# Altium footprint library Diode.PcbLib: 27 footprints (part 2 of 2)
Each footprint in its own frame and in the unit in brackets; x right, y up, seen from the top. Pads: shape width x height; smd on the part's side, far side on the other; paste and mask are expansions set on the pad; w line width, h text height; cw(c..) or ccw(c..) is an arc to the next point about the centre after c.
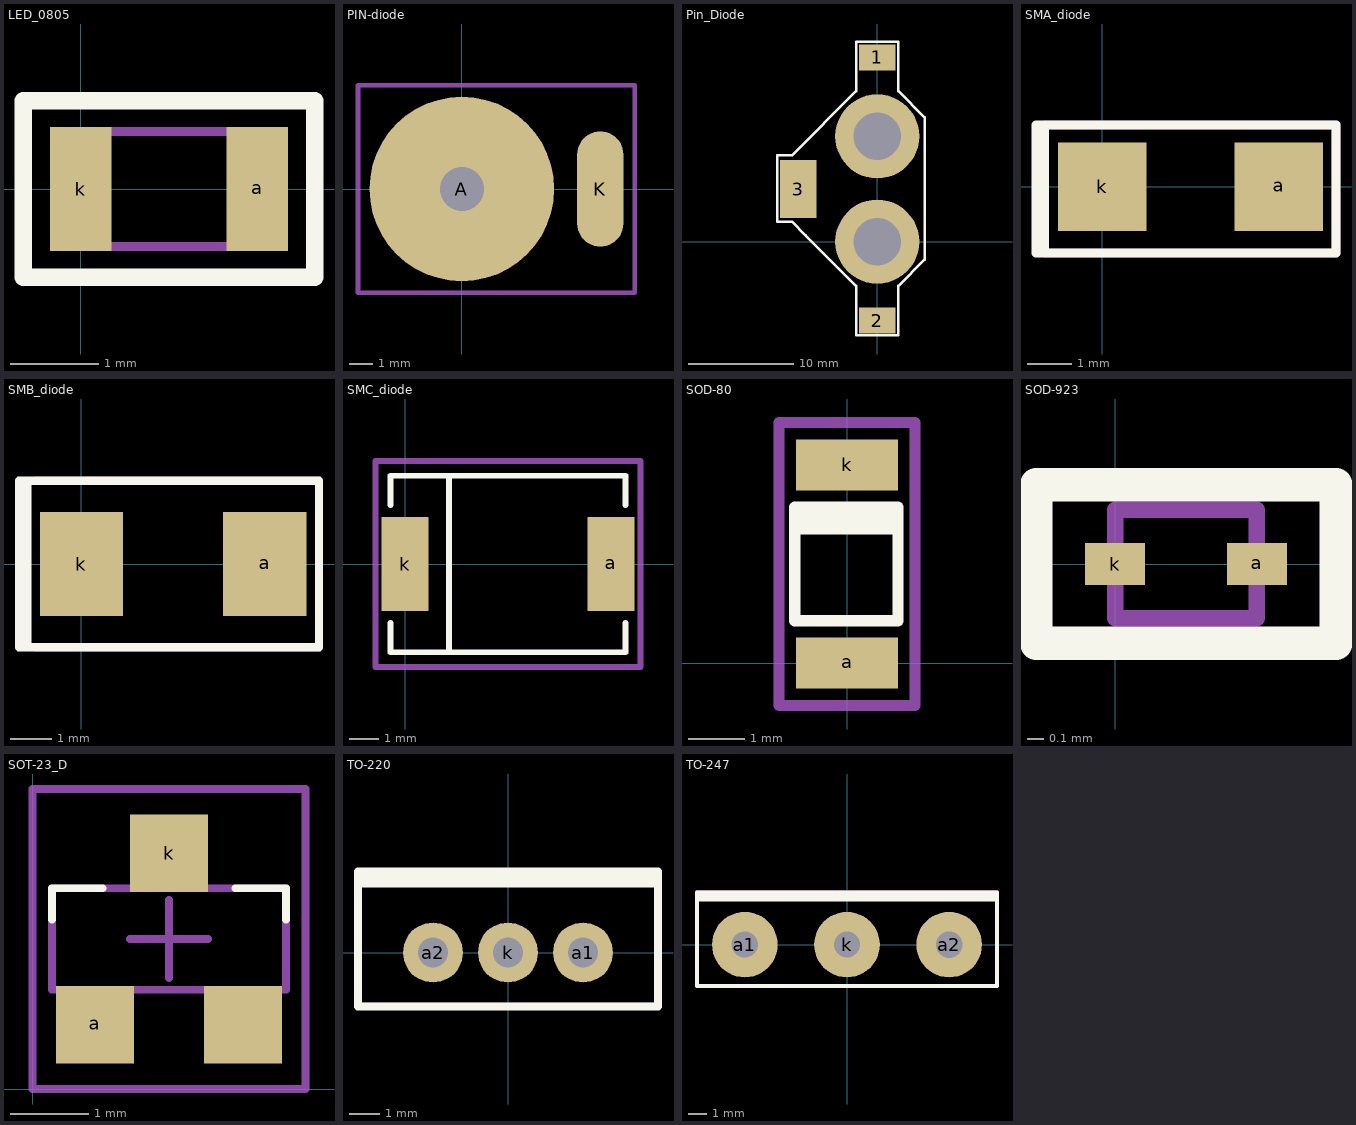
[diagram p1: the footprints below, top view; thin cyan lines are the x and y axes]

## LED_0805 [mm]
pads (2):
  rect 0.7x1.4 smd: a(2,0) k(0,0)
Top Overlay:
  lines w0.2: -0.65,-1 -0.65,1 2.65,1 2.65,-1 -0.65,-1
TopAssy:
  lines w0.1: 0,-0.65 2,-0.65 2,0.65 0,0.65 0,-0.65
3D body "User Library-User Library-led_0805 YEL.STEP": height 1.1, standoff 0, extent -0.01,-0.625 2.01,0.625

## PIN-diode [mm]
pads (2):
  round 8 hole 1.9: A(0,0)
  oval 2x5 smd: K(6,0)
Mechanical 15:
  lines w0.2: -4.5,-4.5 -4.5,4.5 7.5,4.5 7.5,-4.5 -4.5,-4.5

## Pin_Diode [mm]
pads (5):
  rect 3.5x2.5 smd: 1(0,17.5) 2(0,-7.5)
  rect 3.5x5.5 smd: 3(-7.5,5)
  round 8 hole 4.5: ""(0,0) ""(0,10)
Top Overlay:
  lines w0.254: -9.5,1.9 -9.5,8.2 -8.1,8.2 -2,14.3 -2,19 2,19 2,14.3 4.5,11.8 4.5,-1.7 2,-4.2 2,-8.9 -2,-8.9 -2,-4.2 -6.8,0.6 -8.1,1.9 -9.5,1.9

## SMA_diode [mm] "Molded Diode, 2-Leads, Body 4,3x2,6mm, IPC Medium Density"
height 2.41
pads (2):
  rect 2x2 smd: a(4,0) k(0,0)
Top Overlay:
  lines w0.2: -1.3,-1.5 -1.5,-1.5 -1.5,1.4 -1.3,1.4 ; -1.3,-1.5 -1.3,1.4 ; -1.3,-1.5 5.3,-1.5 5.3,1.4 -1.3,1.4
TopAssy:
  lines w0.2: -1.3,-1.5 5.3,-1.5 5.3,1.4 -1.3,1.4 -1.3,-1.5
3D body "Diode SMA.stp": height 2.41, standoff 0, extent -0.64,-1.52 4.64,1.4

## SMB_diode [mm] "Molded Diode, 2-Leads, Body 4,3x2,6mm, IPC Medium Density"
height 2.41
pads (2):
  rect 2x2.5 smd: a(4.4,0) k(0,0)
Top Overlay:
  lines w0.2: -1.3,-2 -1.3,2 ; -1.5,-2 5.7,-2 5.7,2 -1.5,2 -1.5,-2
TopAssy:
  lines w0.2: -1.5,-2 -1.5,2 ; -1.1,-2 5.7,-2 5.7,2 -1.1,2
3D body "User Library-DO-214AA(SMB).STEP": height 2.65, standoff 0, extent -0.594,-1.975 4.994,1.975

## SMC_diode [mm]
pads (2):
  rect 1.6x3.2 smd: a(7,0) k(0,0)
Top Overlay:
  lines w0.2: -0.5,-2 -0.5,-3 7.5,-3 7.5,-2 ; -0.5,2 -0.5,3 7.5,3 7.5,2 ; 1.5,-3 1.5,3
TopAssy:
  lines w0.2: -1,-3.5 -1,3.5 8,3.5 8,-3.5 -1,-3.5
3D body "SW3DPS-SMC-DEFAULT.STEP": height 2.8, standoff 0, extent -0.364,-3.11 7.254,3.11

## SOD-80 [mm]
pads (2):
  rect 1.8x0.9 smd: a(0,0) k(0,3.5)
Top Overlay:
  lines w0.2: -0.925,2.375 0.9,2.375 ; -0.925,2.55 0.9,2.55 ; -0.925,0.75 -0.925,2.75 0.9,2.75 0.9,0.75 -0.925,0.75
TopAssy:
  lines w0.2: -1.2,-0.75 1.2,-0.75 1.2,4.25 -1.2,4.25 -1.2,-0.75
Top3D:
  region: -0.85,3.6 -0.85,3.102 0.85,3.102 0.85,3.6
3D body "User Library-Diode MELF.STEP": height 1.5, standoff 0, extent -0.75,0 0.75,3.5

## SOD-923 [mm]
pads (2):
  rect 0.36x0.25 smd: a(0.85,0) k(0,0)
Top Overlay:
  lines w0.2: -0.475,-0.475 -0.475,0.475 1.325,0.475 1.325,-0.475 -0.475,-0.475
TopAssy:
  lines w0.1: 0,-0.325 0.85,-0.325 0.85,0.325 0,0.325 0,-0.325
3D body "User Library-SOD-923.STEP": height 0.4, standoff 0, extent -0.075,-0.3 0.925,0.3

## SOT-23_D [mm] "SOT23, 3-Leads, Body 3,0x2,6mm (max), Pitch 0,95mm, IPC Medium Density"
height 1.1
pads (3):
  rect 1x1 smd: a(0.8,0.825) k(1.75,3.025) ""(2.7,0.825)
Top Overlay:
  lines w0.1: 0.25,2.175 0.25,2.575 0.9,2.575 ; 2.6,2.575 3.25,2.575 3.25,2.175
Mechanical 13:
  lines w0.1: 0.25,1.275 0.25,2.575 3.25,2.575 3.25,1.275 0.25,1.275
Mechanical 15:
  lines w0.1: 1.25,1.925 2.25,1.925 ; 1.75,1.425 1.75,2.425 ; 0,0 0,3.85 3.5,3.85 3.5,0 0,0
3D body: height 1.1, standoff 0.05, extent 0.25,1.275 3.25,2.575

## TO-220 [mm]
pads (3):
  round 2 hole 1: a1(2.5,0) a2(-2.5,0) k(0,0)
Top Overlay:
  lines w0.254: -5,2.3 5,2.3 ; -5,2.5 5,2.5 ; -5,-1.8 5,-1.8 5,2.7 -5,2.7 -5,-1.8
TopAssy:
  lines w0.25: -5,-1.8 -5,2.7 5,2.7 5,-1.8 -5,-1.8
3D body "User Library-TO-220-4.STEP": height 22.06, standoff -6.74, extent -5.1,-1.8 5.1,2.7

## TO-247 [mm]
pads (3):
  round 3.5 hole 1.4: a1(-5.45,0) a2(5.45,0) k(0,0)
Top Overlay:
  lines w0.2: -8,2.4 8,2.4 ; -8,2.6 8,2.6 ; -8,-2.2 8,-2.2 8,2.8 -8,2.8 -8,-2.2
Mechanical 15:
  lines w0.2: -8,-2.2 -8,2.8 8,2.8 8,-2.2 -8,-2.2
3D body "User Library-TO-247 CASE 340L-02 Vertical.STEP": height 27.55, standoff -13.85, extent -8,-2.2 8,2.8